# Altium footprint library DIP-8_L9.8-W6.6-P2.54-LS7.6-BL.PcbLib: 1 footprints
Each footprint in its own frame and in the unit in brackets; x right, y up, seen from the top. Pads: shape width x height; smd on the part's side, far side on the other; paste and mask are expansions set on the pad; w line width, h text height; cw(c..) or ccw(c..) is an arc to the next point about the centre after c.
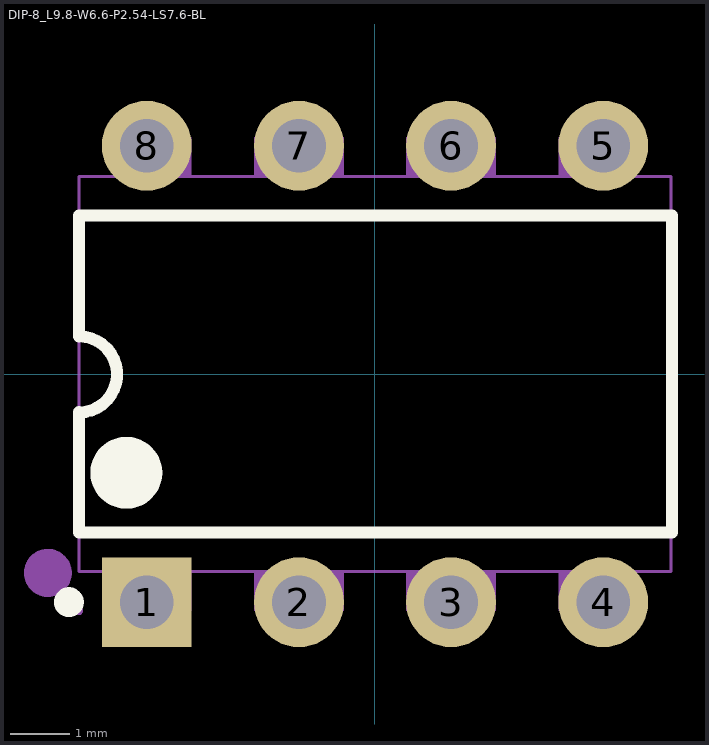
[diagram p0: the footprint, top view; thin cyan lines are the x and y axes]

## DIP-8_L9.8-W6.6-P2.54-LS7.6-BL [mil]
pads (8):
  rect 59.1x59.1 hole 35.4 mask+2: 1(-150,-150)
  round 59.1 hole 35.4 mask+2: 2(-50,-150) 3(50,-150) 4(150,-150) 5(150,150) 6(50,150) 7(-50,150) 8(-150,150)
Top Overlay:
  lines w7.9: -194.49,24.8 cw(c-194.49,-0.2) -194.49,-25.2 -194.5,-25 -194.5,-104.3 195.3,-104.3 195.3,104.3 -194.5,104.3 -194.5,25 -194.5,25.2
  lines w9.8: -206.1,-150 ccw(c-201.18,-149.95) -206.1,-149.9
  lines w23.6: -175.2,-65 ccw(c-163.39,-64.9) -175.2,-64.8
Mechanical 6:
  circle w15.7: c-215,-130.7 r7.9
Mechanical 15:
  region: 79.3,155.7 79.3,129.5 20.7,129.5 20.7,155.7
  region: -20.7,155.7 -20.7,129.5 -79.3,129.5 -79.3,155.7
  region: 20.7,-155.7 20.7,-129.5 79.3,-129.5 79.3,-155.7
  region: -79.3,-155.7 -79.3,-129.5 -20.7,-129.5 -20.7,-155.7
  region: 120.7,-155.7 120.7,-129.5 159,-129.5 159,-155.7
  region: -120.7,155.7 -120.7,129.5 -159,129.5 -159,155.7
  region: 159,155.7 159,129.5 120.7,129.5 120.7,155.7
  region: -159,-155.7 -159,-129.5 -120.7,-129.5 -120.7,-155.7
  region: -159,-144.2 -141,-144.2 -141,-155.8 -159,-155.8
  region: -41,-144.2 -41,-155.8 -59,-155.8 -59,-144.2
  region: 59,-144.2 59,-155.8 41,-155.8 41,-144.2
  region: 159,-144.2 159,-155.8 141,-155.8 141,-144.2
  region: -141,155.8 -141,144.2 -159,144.2 -159,155.8
  region: -41,155.8 -41,144.2 -59,144.2 -59,155.8
  region: 59,155.8 59,144.2 41,144.2 41,155.8
  region: 159,155.8 159,144.2 141,144.2 141,155.8
  region: -192.1,-155.7 -192.1,-154.71 -193.51,-153.3 -195.49,-153.3 -196.9,-154.71 -196.9,-155.7 -196.9,-156.69 -195.49,-158.1 -193.51,-158.1 -192.1,-156.69 -192.1,-155.7
  lines w2: -194.5,-129.9 -194.5,129.9 194.5,129.9 194.5,-129.9 -194.5,-129.9